# EAGLE library part PCI-E_CARDEDGE (library LunchBox48_ASIC_board)
PCI-e 16x card edge
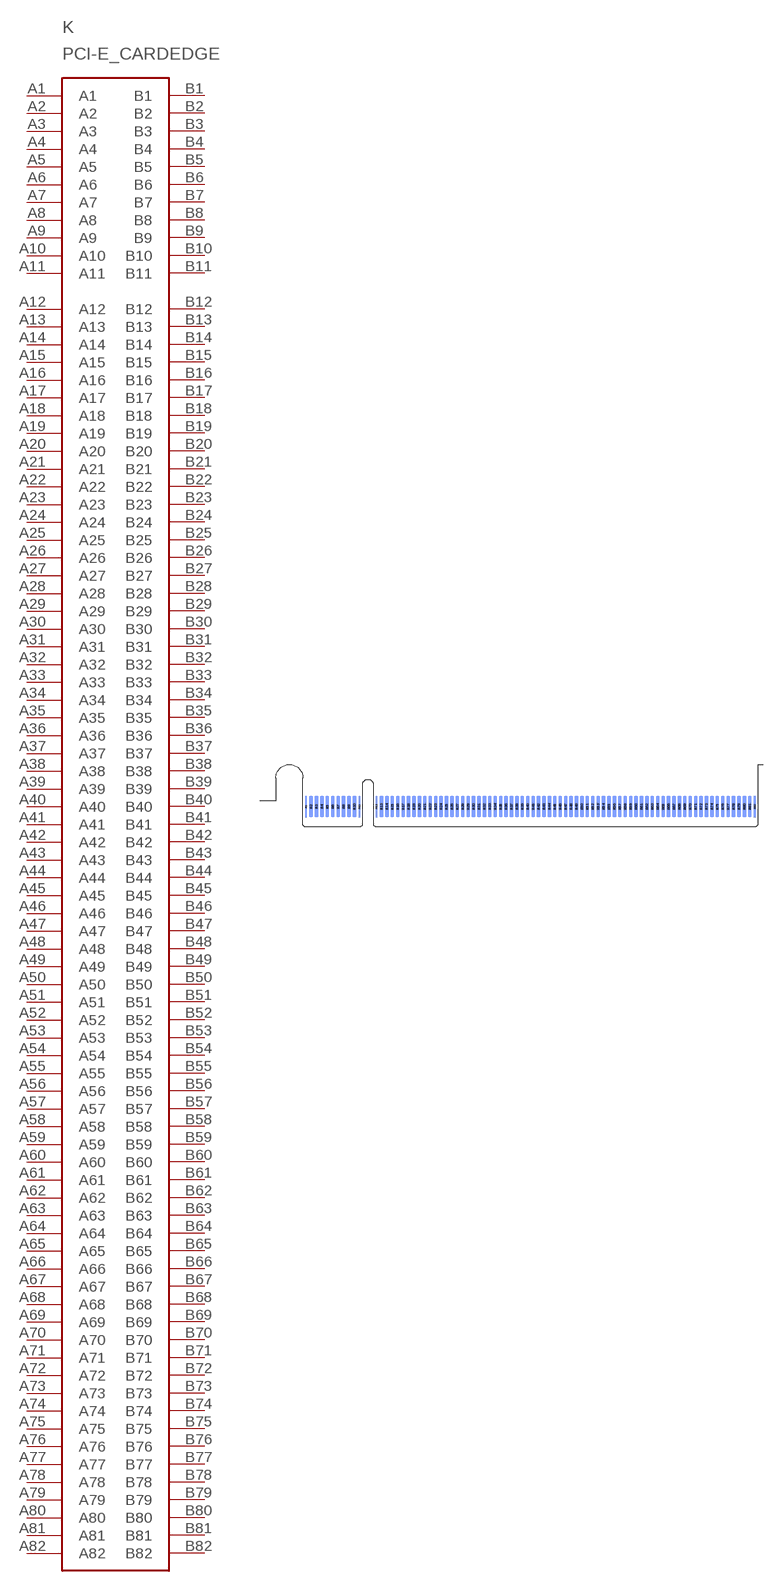
[diagram p2: symbol with the pads of PCI-E_16X; footprint PCI-E_16X]

Designator prefix K

## PCI-E_CARDEDGE  [PCI-E_16X]
A1  A1  pas
A2  A2  pas
A3  A3  pas
A4  A4  pas
A5  A5  pas
A6  A6  pas
A7  A7  pas
A8  A8  pas
A9  A9  pas
A10  A10  pas
A11  A11  pas
A12  A12  pas
A13  A13  pas
A14  A14  pas
A15  A15  pas
A16  A16  pas
A17  A17  pas
A18  A18  pas
A19  A19  pas
A20  A20  pas
A21  A21  pas
A22  A22  pas
A23  A23  pas
A24  A24  pas
A25  A25  pas
A26  A26  pas
A27  A27  pas
A28  A28  pas
A29  A29  pas
A30  A30  pas
A31  A31  pas
A32  A32  pas
A33  A33  pas
A34  A34  pas
A35  A35  pas
A36  A36  pas
A37  A37  pas
A38  A38  pas
A39  A39  pas
A40  A40  pas
A41  A41  pas
A42  A42  pas
A43  A43  pas
A44  A44  pas
A45  A45  pas
A46  A46  pas
A47  A47  pas
A48  A48  pas
A49  A49  pas
A50  A50  pas
A51  A51  pas
A52  A52  pas
A53  A53  pas
A54  A54  pas
A55  A55  pas
A56  A56  pas
A57  A57  pas
A58  A58  pas
A59  A59  pas
A60  A60  pas
A61  A61  pas
A62  A62  pas
A63  A63  pas
A64  A64  pas
A65  A65  pas
A66  A66  pas
A67  A67  pas
A68  A68  pas
A69  A69  pas
A70  A70  pas
A71  A71  pas
A72  A72  pas
A73  A73  pas
A74  A74  pas
A75  A75  pas
A76  A76  pas
A77  A77  pas
A78  A78  pas
A79  A79  pas
A80  A80  pas
A81  A81  pas
A82  A82  pas
B1  B1  pas
B2  B2  pas
B3  B3  pas
B4  B4  pas
B5  B5  pas
B6  B6  pas
B7  B7  pas
B8  B8  pas
B9  B9  pas
B10  B10  pas
B11  B11  pas
B12  B12  pas
B13  B13  pas
B14  B14  pas
B15  B15  pas
B16  B16  pas
B17  B17  pas
B18  B18  pas
B19  B19  pas
B20  B20  pas
B21  B21  pas
B22  B22  pas
B23  B23  pas
B24  B24  pas
B25  B25  pas
B26  B26  pas
B27  B27  pas
B28  B28  pas
B29  B29  pas
B30  B30  pas
B31  B31  pas
B32  B32  pas
B33  B33  pas
B34  B34  pas
B35  B35  pas
B36  B36  pas
B37  B37  pas
B38  B38  pas
B39  B39  pas
B40  B40  pas
B41  B41  pas
B42  B42  pas
B43  B43  pas
B44  B44  pas
B45  B45  pas
B46  B46  pas
B47  B47  pas
B48  B48  pas
B49  B49  pas
B50  B50  pas
B51  B51  pas
B52  B52  pas
B53  B53  pas
B54  B54  pas
B55  B55  pas
B56  B56  pas
B57  B57  pas
B58  B58  pas
B59  B59  pas
B60  B60  pas
B61  B61  pas
B62  B62  pas
B63  B63  pas
B64  B64  pas
B65  B65  pas
B66  B66  pas
B67  B67  pas
B68  B68  pas
B69  B69  pas
B70  B70  pas
B71  B71  pas
B72  B72  pas
B73  B73  pas
B74  B74  pas
B75  B75  pas
B76  B76  pas
B77  B77  pas
B78  B78  pas
B79  B79  pas
B80  B80  pas
B81  B81  pas
B82  B82  pas

## Footprint PCI-E_16X (pad centres in mm)
smd 0.55 x 4 bottom: A1 -11.425,3.75; A11 -1.575,3.75; A12 1.575,3.75; A82 71.425,3.75
smd 0.7 x 4 bottom: A2 -10.5,3.75; A3 -9.5,3.75; A4 -8.5,3.75; A5 -7.5,3.75; A6 -6.5,3.75; A7 -5.5,3.75; A8 -4.5,3.75; A9 -3.5,3.75; A10 -2.5,3.75; A13 2.5,3.75; A14 3.5,3.75; A15 4.5,3.75; A16 5.5,3.75; A17 6.5,3.75; A18 7.5,3.75; A19 8.5,3.75; A20 9.5,3.75; A21 10.5,3.75; A22 11.5,3.75; A23 12.5,3.75; A24 13.5,3.75; A25 14.5,3.75; A26 15.5,3.75; A27 16.5,3.75; A28 17.5,3.75; A29 18.5,3.75; A30 19.5,3.75; A31 20.5,3.75; A32 21.5,3.75; A33 22.5,3.75; A34 23.5,3.75; A35 24.5,3.75; A36 25.5,3.75; A37 26.5,3.75; A38 27.5,3.75; A39 28.5,3.75; A40 29.5,3.75; A41 30.5,3.75; A42 31.5,3.75; A43 32.5,3.75; A44 33.5,3.75; A45 34.5,3.75; A46 35.5,3.75; A47 36.5,3.75; A48 37.5,3.75; A49 38.5,3.75; A50 39.5,3.75; A51 40.5,3.75; A52 41.5,3.75; A53 42.5,3.75; A54 43.5,3.75; A55 44.5,3.75; A56 45.5,3.75; A57 46.5,3.75; A58 47.5,3.75; A59 48.5,3.75; A60 49.5,3.75; A61 50.5,3.75; A62 51.5,3.75; A63 52.5,3.75; A64 53.5,3.75; A65 54.5,3.75; A66 55.5,3.75; A67 56.5,3.75; A68 57.5,3.75; A69 58.5,3.75; A70 59.5,3.75; A71 60.5,3.75; A72 61.5,3.75; A73 62.5,3.75; A74 63.5,3.75; A75 64.5,3.75; A76 65.5,3.75; A77 66.5,3.75; A78 67.5,3.75; A79 68.5,3.75; A80 69.5,3.75; A81 70.5,3.75
smd 0.55 x 4: B1 -11.425,3.75; B11 -1.575,3.75; B12 1.575,3.75; B82 71.425,3.75
smd 0.7 x 4: B2 -10.5,3.75; B3 -9.5,3.75; B4 -8.5,3.75; B5 -7.5,3.75; B6 -6.5,3.75; B7 -5.5,3.75; B8 -4.5,3.75; B9 -3.5,3.75; B10 -2.5,3.75; B13 2.5,3.75; B14 3.5,3.75; B15 4.5,3.75; B16 5.5,3.75; B17 6.5,3.75; B18 7.5,3.75; B19 8.5,3.75; B20 9.5,3.75; B21 10.5,3.75; B22 11.5,3.75; B23 12.5,3.75; B24 13.5,3.75; B25 14.5,3.75; B26 15.5,3.75; B27 16.5,3.75; B28 17.5,3.75; B29 18.5,3.75; B30 19.5,3.75; B31 20.5,3.75; B32 21.5,3.75; B33 22.5,3.75; B34 23.5,3.75; B35 24.5,3.75; B36 25.5,3.75; B37 26.5,3.75; B38 27.5,3.75; B39 28.5,3.75; B40 29.5,3.75; B41 30.5,3.75; B42 31.5,3.75; B43 32.5,3.75; B44 33.5,3.75; B45 34.5,3.75; B46 35.5,3.75; B47 36.5,3.75; B48 37.5,3.75; B49 38.5,3.75; B50 39.5,3.75; B51 40.5,3.75; B52 41.5,3.75; B53 42.5,3.75; B54 43.5,3.75; B55 44.5,3.75; B56 45.5,3.75; B57 46.5,3.75; B58 47.5,3.75; B59 48.5,3.75; B60 49.5,3.75; B61 50.5,3.75; B62 51.5,3.75; B63 52.5,3.75; B64 53.5,3.75; B65 54.5,3.75; B66 55.5,3.75; B67 56.5,3.75; B68 57.5,3.75; B69 58.5,3.75; B70 59.5,3.75; B71 60.5,3.75; B72 61.5,3.75; B73 62.5,3.75; B74 63.5,3.75; B75 64.5,3.75; B76 65.5,3.75; B77 66.5,3.75; B78 67.5,3.75; B79 68.5,3.75; B80 69.5,3.75; B81 70.5,3.75